# Altium footprint library CAP_RADIAL_0.4.PcbLib: 1 footprints
Each footprint in its own frame and in the unit in brackets; x right, y up, seen from the top. Pads: shape width x height; smd on the part's side, far side on the other; paste and mask are expansions set on the pad; w line width, h text height; cw(c..) or ccw(c..) is an arc to the next point about the centre after c.
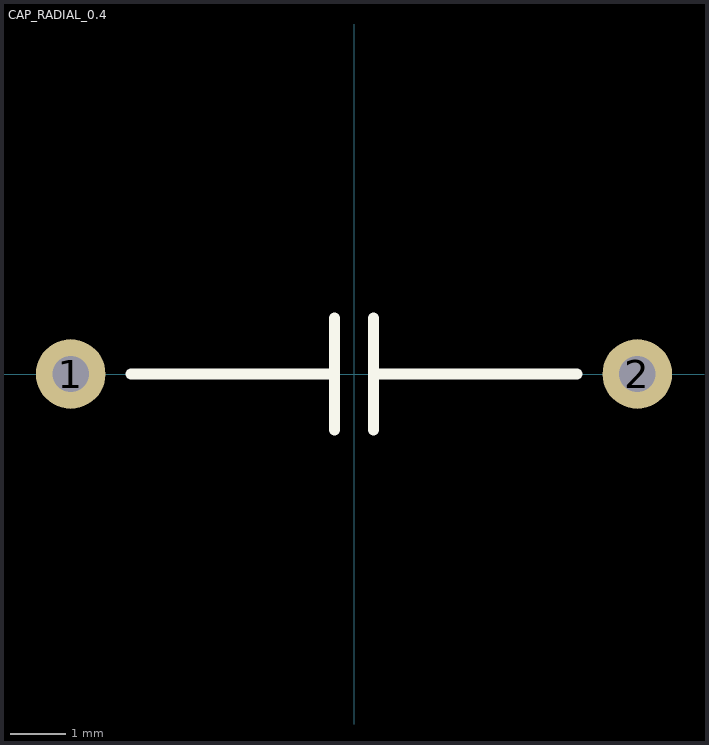
[diagram p0: the footprint, top view; thin cyan lines are the x and y axes]

## CAP_RADIAL_0.4 [mm] "Like the 0.1uF's in the Glennan Circuits Lab"
pads (2):
  round 1.25 hole 0.65: 1(-5.08,0) 2(5.08,0)
Top Overlay:
  lines w0.2: -4,0 -0.35,0 ; -0.35,-1 -0.35,1 ; 0.35,-1 0.35,1 ; 0.35,0 4,0
3D body "CAP_RADIAL_0.4.SLDPRT": height 7.6, standoff -3.9, extent -5.5,-1.5 5.5,1.499